# EAGLE library part TR-54DA (library iqrf)
Wirelles transceiver module
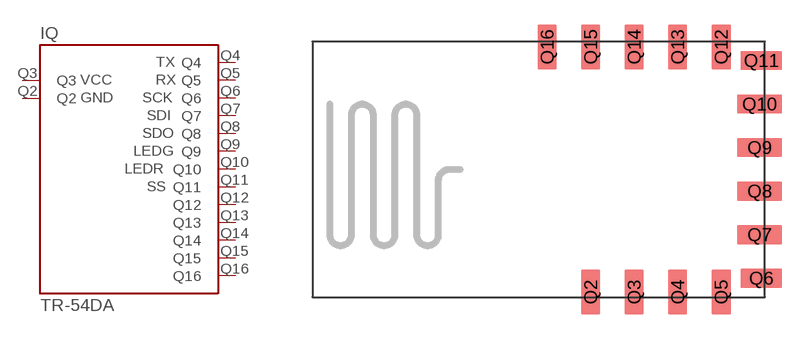
[diagram p1: symbol with the pads of TR-54DA; footprint TR-54DA]

Designator prefix IQ

## TR-54DA  [TR-54DA]
Q2  Q2  pwr
Q3  Q3  pwr
Q4  Q4
Q5  Q5
Q6  Q6
Q7  Q7
Q8  Q8
Q9  Q9
Q10  Q10
Q11  Q11
Q12  Q12
Q13  Q13
Q14  Q14
Q15  Q15
Q16  Q16

## Footprint TR-54DA (pad centres in mm)
TR-54D module with antenna
smd 1.1 x 2.6: Q2 2.54,-5.88; Q3 5.08,-5.88; Q4 7.62,-5.88; Q5 10.16,-5.88; Q12 10.16,8.42; Q13 7.62,8.42; Q14 5.08,8.42; Q15 2.54,8.42; Q16 0,8.42
smd 2.4 x 1.1: Q6 12.5,-5.08; Q11 12.5,7.62
smd 2.6 x 1.1: Q7 12.4,-2.54; Q8 12.4,0; Q9 12.4,2.54; Q10 12.4,5.08